# EAGLE library part MPU9250 (library MPU9250)
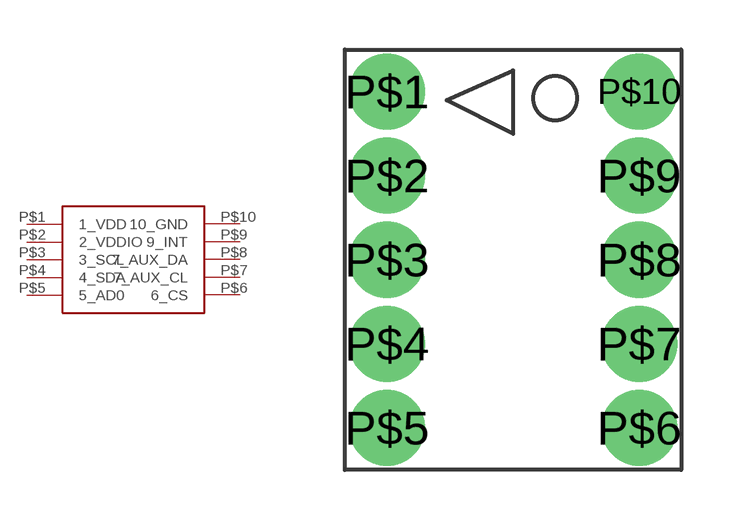
[diagram p0: symbol with the pads of MPU9250; footprint MPU9250]

Designator prefix MPU9250

## MPU9250  [MPU9250]
P$1  1_VDD
P$2  2_VDDIO
P$3  3_SCL
P$4  4_SDA
P$5  5_AD0
P$6  6_CS
P$7  7_AUX_CL
P$8  7_AUX_DA
P$9  9_INT
P$10  10_GND

## Footprint MPU9250 (pad centres in mm)
drill 1 pad 2.3: P$1 0,10.16; P$2 0,7.62; P$3 0,5.08; P$4 0,2.54; P$5 0,0; P$6 7.62,0; P$7 7.62,2.54; P$8 7.62,5.08; P$9 7.62,7.62; P$10 7.62,10.16